# Altium schematic symbol library MRF89X-SMD12.SchLib: 1 symbol
Pins are listed as number, name and electrical type; pins without a type are passive.

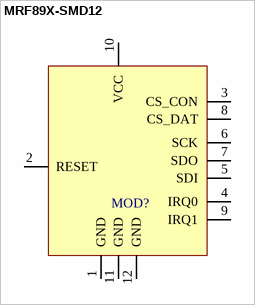
[diagram p0: symbol MRF89X-SMD12]

## MRF89X-SMD12
designator MOD?  (value not drawn)
pins: 1 GND, 2 RESET, 3 CS_CON, 4 IRQ0, 5 SDI, 6 SCK, 7 SDO, 8 CS_DAT, 9 IRQ1, 10 VCC, 11 GND, 12 GND